# EAGLE library part TL497A (library ML497A)
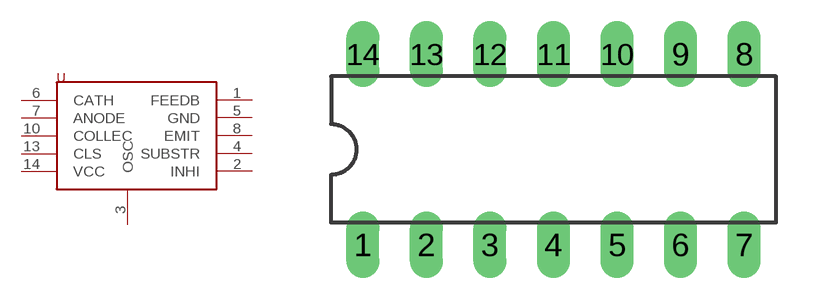
[diagram p0: symbol with the pads of DIL14; footprint DIL14]

Designator prefix -

## TL497A  [DIL14]
1  FEEDB
2  INHI
3  OSC
4  SUBSTR
5  GND
6  CATH
7  ANODE
8  EMIT
10  COLLEC
13  CLS
14  VCC

## Footprint DIL14 (pad centres in mm)
Dual In Line Package
drill 0.813 long: 1 -7.62,-3.81; 2 -5.08,-3.81; 3 -2.54,-3.81; 4 0,-3.81; 5 2.54,-3.81; 6 5.08,-3.81; 7 7.62,-3.81; 8 7.62,3.81; 9 5.08,3.81; 10 2.54,3.81; 11 0,3.81; 12 -2.54,3.81; 13 -5.08,3.81; 14 -7.62,3.81